# EAGLE library part VCNL4010-GS08 (library VCNL4010-GS08)
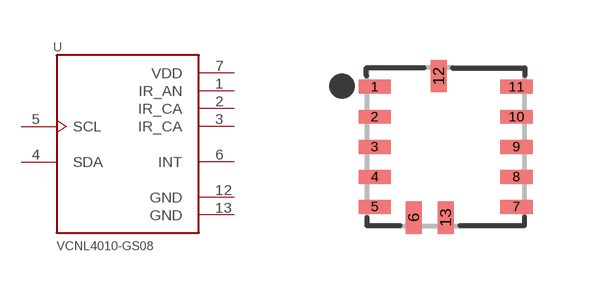
[diagram p0: symbol with the pads of XDCR_VCNL4010-GS08; footprint XDCR_VCNL4010-GS08]

Designator prefix U

## VCNL4010-GS08  [XDCR_VCNL4010-GS08]
1  IR_AN  pwr
2  IR_CA  pwr
3  IR_CA  pwr
4  SDA
5  SCL  in
6  INT  out
7  VDD  pwr
12  GND  pwr
13  GND  pwr

## Footprint XDCR_VCNL4010-GS08 (pad centres in mm)
smd 0.805 x 0.35: 1 -1.772,1.5; 2 -1.772,0.75; 3 -1.772,0; 4 -1.772,-0.75; 5 -1.772,-1.5; 7 1.772,-1.5; 8 1.772,-0.75; 9 1.772,0; 10 1.772,0.75; 11 1.772,1.5
smd 0.4 x 0.805: 6 -0.8,-1.772; 12 -0.175,1.772; 13 0,-1.772